# Altium footprint library Nick.PcbLib: 22 footprints (part 2 of 2)
Each footprint in its own frame and in the unit in brackets; x right, y up, seen from the top. Pads: shape width x height; smd on the part's side, far side on the other; paste and mask are expansions set on the pad; w line width, h text height; cw(c..) or ccw(c..) is an arc to the next point about the centre after c.
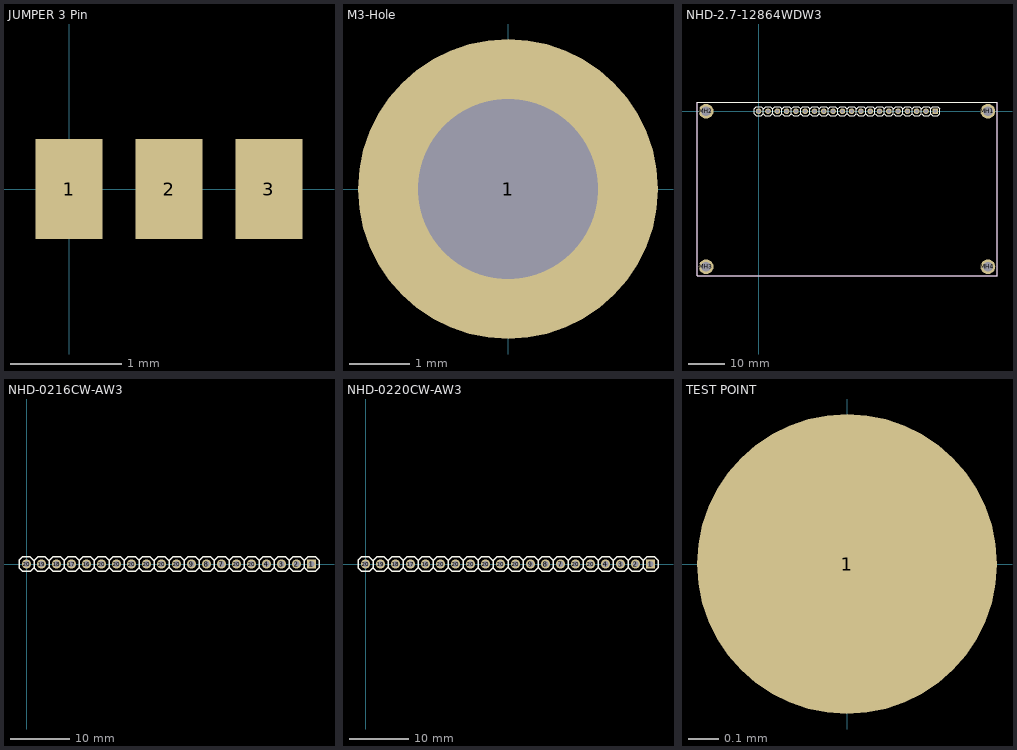
[diagram p1: the footprints below, top view; thin cyan lines are the x and y axes]

## JUMPER 3 Pin [mm]
pads (3):
  rect 0.6x0.9 smd: 1(0,0) 2(0.9,0) 3(1.8,0)

## M3-Hole [mm]
pads (1):
  round 5 hole 3: 1(0,0)

## NHD-2.7-12864WDW3 [mm]
pads (24):
  round 1.524 hole 1.02: 1(15.28,0.02) 1(17.82,0.02) 1(20.36,0.02) 1(22.9,0.02) 1(25.44,0.02) 1(35.6,0.02) 1(38.14,0.02) 2(45.76,0.02) 4(40.68,0.02) 7(33.06,0.02) 8(30.52,0.02) 16(10.2,0.02) 17(7.66,0.02) 19(2.58,0.02) 20(0,0.02) ""(5.12,0.02) ""(12.74,0.02) ""(27.98,0.02) ""(43.22,0.02)
  rect 1.524x1.524 hole 1.02: 1(48.3,0.02)
  round 4.05 hole 2.7: MH1(62.67,0.02) MH2(-14.33,0.02) MH3(-14.33,-42.48) MH4(62.67,-42.48)
Top Overlay:
  drawing of 187 lines, arcs and shapes, not listed
Mechanical 13:
  lines w0.2: -16.83,-44.98 65.17,-44.98 65.17,2.52 -16.83,2.52 -16.83,-44.98
3D body "NewhavenOLED128x64 v3.step": height 4.4, standoff -4.1, extent -16.811,-44.97 65.189,2.53

## NHD-0216CW-AW3 [mil]
pads (20):
  rect 60x60 hole 40.16: 1(1900,0)
  round 60 hole 40.16: 2(1800,0) 3(1700,0) 4(1600,0) 7(1300,0) 8(1200,0) 9(1100,0) 16(400,0) 17(300,0) 18(200,0) 19(100,0) 20(0,0) 20(500,0) 20(600,0) 20(700,0) 20(800,0) 20(900,0) 20(1000,0) 20(1400,0) 20(1500,0)
Top Overlay:
  drawing of 183 lines, arcs and shapes, not listed
3D body "NHD-0216CW.STEP": height 187.8, standoff -9.06, extent -546.03,-905.51 2458.63,59.06

## NHD-0220CW-AW3 [mil]
pads (20):
  rect 60x60 hole 40.16: 1(1900,0)
  round 60 hole 40.16: 2(1800,0) 3(1700,0) 4(1600,0) 7(1300,0) 8(1200,0) 9(1100,0) 16(400,0) 17(300,0) 18(200,0) 19(100,0) 20(0,0) 20(500,0) 20(600,0) 20(700,0) 20(800,0) 20(900,0) 20(1000,0) 20(1400,0) 20(1500,0)
Top Overlay:
  drawing of 183 lines, arcs and shapes, not listed
3D body "NHD-0220CW.STEP": height 187.8, standoff -9.06, extent -861.02,-858.64 2761.02,58.68

## TEST POINT [mm]
pads (1):
  round 1 smd: 1(0,0)